# Altium schematic symbol library Molex_45586-8PIN_PWR.SchLib: 1 symbol
Pins are listed as number, name and electrical type; pins without a type are passive.

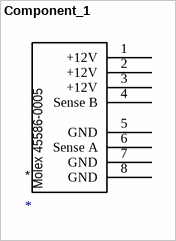
[diagram p0: symbol Component_1]

## Component_1
designator *
footprint Molex_45586-8-Pin-PWR
pins: 1 +12V (power), 2 +12V (power), 3 +12V (power), 4 Sense B (power), 5 GND (power), 6 Sense A (power), 7 GND (power), 8 GND (power)
text: Molex 45586-0005